# Altium footprint library SON3X3.PcbLib: 1 footprints
Each footprint in its own frame and in the unit in brackets; x right, y up, seen from the top. Pads: shape width x height; smd on the part's side, far side on the other; paste and mask are expansions set on the pad; w line width, h text height; cw(c..) or ccw(c..) is an arc to the next point about the centre after c.
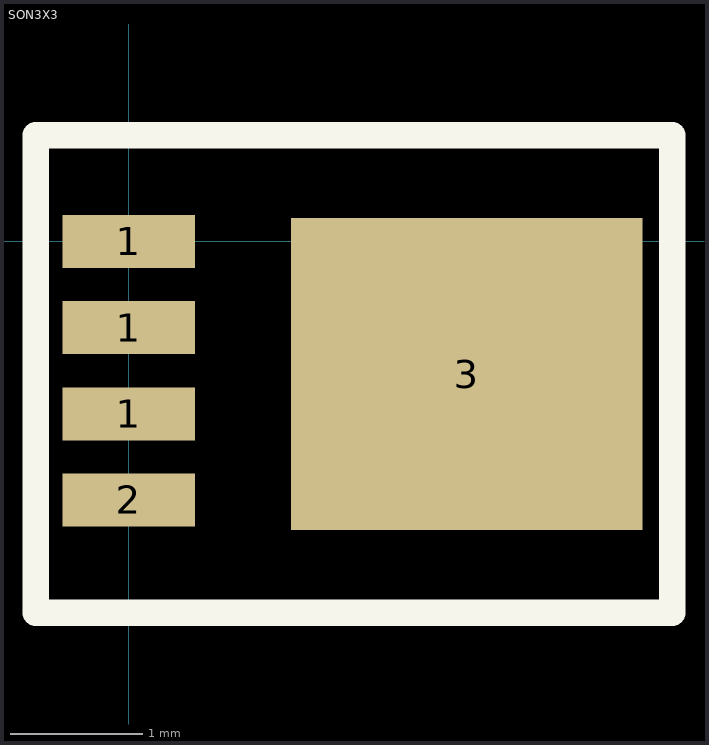
[diagram p0: the footprint, top view; thin cyan lines are the x and y axes]

## SON3X3 [mm]
pads (5):
  rect 1x0.4 smd: 1(0,-1.3) 1(0,-0.65) 1(0,0) 2(0,-1.95)
  rect 2.65x2.35 smd: 3(2.55,-1)
Top Overlay:
  lines w0.2: -0.7,-2.8 4.1,-2.8 4.1,0.8 -0.7,0.8 -0.7,-2.8
3D body "SON3X3.step": height 1, standoff 0, extent 0.02,-2.68 3.38,0.68